# Altium footprint library Resistor.PcbLib: 7 footprints
Each footprint in its own frame and in the unit in brackets; x right, y up, seen from the top. Pads: shape width x height; smd on the part's side, far side on the other; paste and mask are expansions set on the pad; w line width, h text height; cw(c..) or ccw(c..) is an arc to the next point about the centre after c.
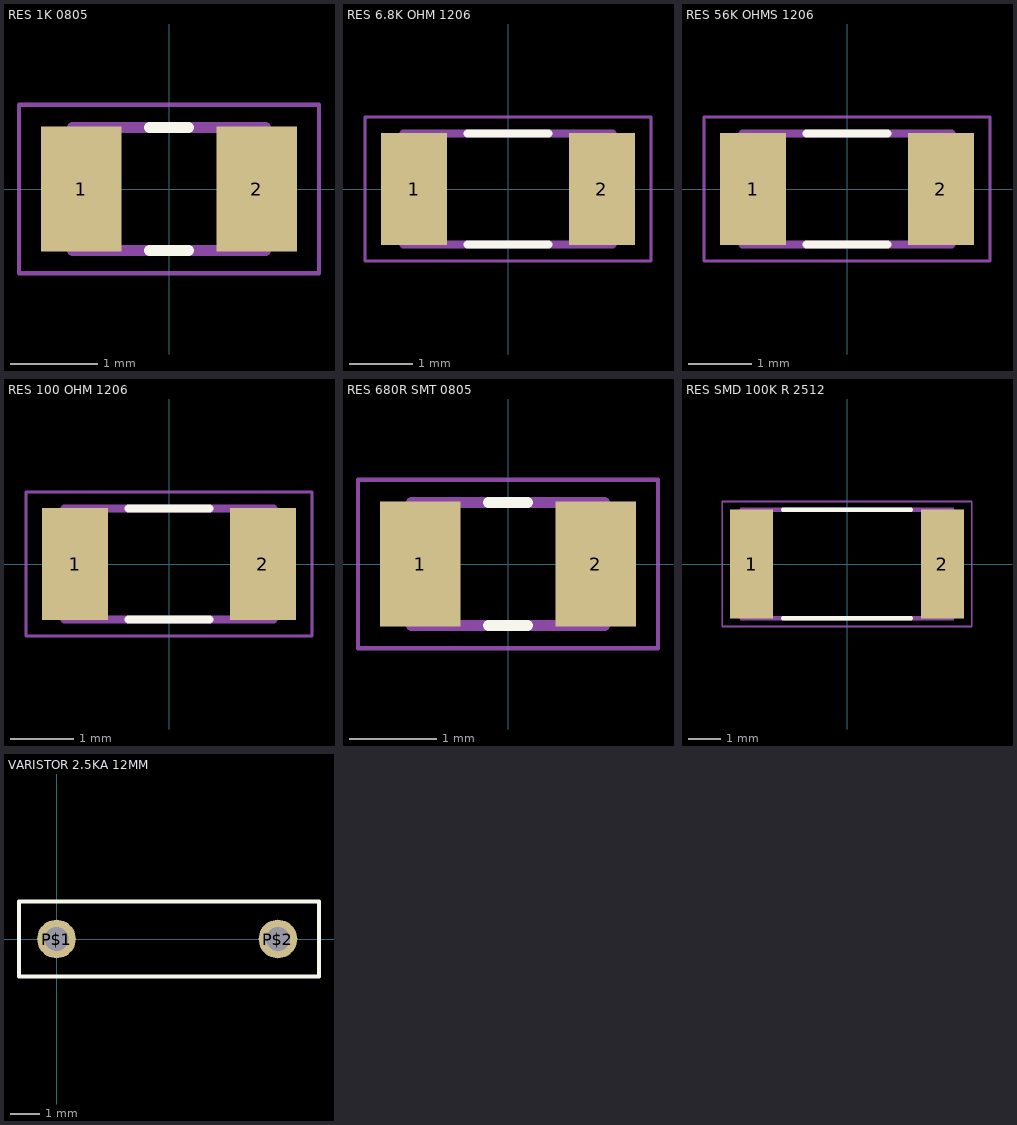
[diagram p0: the footprints below, top view; thin cyan lines are the x and y axes]

## RES 1K 0805 [mm]
pads (2):
  rect 0.92x1.42 smd: 1(-1,0) 2(1,0)
Top Overlay:
  lines w0.127: -0.22,-0.7 0.22,-0.7 ; -0.22,0.7 0.22,0.7
Mechanical 4:
  lines w0.127: -1.1,-0.7 1.1,-0.7 ; -1.1,-0.7 -1.1,0.7 ; -1.1,-0.7 1.1,-0.7 ; -1.1,-0.7 -1.1,0.7 ; -1.1,0.7 1.1,0.7 ; -1.1,0.7 1.1,0.7 ; 1.1,-0.7 1.1,0.7 ; 1.1,-0.7 1.1,0.7
Mechanical 16:
  lines w0.05: -1.71,-0.96 1.71,-0.96 1.71,0.96 -1.71,0.96 -1.71,-0.96

## RES 6.8K OHM 1206 [mm]
pads (2):
  rect 1.05x1.77 smd: 1(-1.485,0) 2(1.485,0)
Top Overlay:
  lines w0.127: -0.64,-0.88 0.64,-0.88 ; -0.64,0.88 0.64,0.88
Mechanical 4:
  lines w0.127: -1.65,-0.88 1.65,-0.88 ; -1.65,-0.88 -1.65,0.88 ; -1.65,-0.88 1.65,-0.88 ; -1.65,-0.88 -1.65,0.88 ; -1.65,0.88 1.65,0.88 ; -1.65,0.88 1.65,0.88 ; 1.65,-0.88 1.65,0.88 ; 1.65,-0.88 1.65,0.88
Mechanical 16:
  lines w0.05: -2.26,-1.135 2.26,-1.135 2.26,1.135 -2.26,1.135 -2.26,-1.135

## RES 56K OHMS 1206 [mm]
pads (2):
  rect 1.05x1.77 smd: 1(-1.485,0) 2(1.485,0)
Top Overlay:
  lines w0.127: -0.64,-0.88 0.64,-0.88 ; -0.64,0.88 0.64,0.88
Mechanical 4:
  lines w0.127: -1.65,-0.88 -1.65,0.88 ; -1.65,-0.88 1.65,-0.88 ; -1.65,-0.88 -1.65,0.88 ; -1.65,-0.88 1.65,-0.88 ; -1.65,0.88 1.65,0.88 ; -1.65,0.88 1.65,0.88 ; 1.65,-0.88 1.65,0.88 ; 1.65,-0.88 1.65,0.88
Mechanical 16:
  lines w0.05: -2.26,-1.135 -2.26,1.135 2.26,1.135 2.26,-1.135 -2.26,-1.135

## RES 100 OHM 1206 [mm]
pads (2):
  rect 1.05x1.77 smd: 1(-1.485,0) 2(1.485,0)
Top Overlay:
  lines w0.127: -0.64,-0.88 0.64,-0.88 ; -0.64,0.88 0.64,0.88
Mechanical 4:
  lines w0.127: -1.65,-0.88 1.65,-0.88 ; -1.65,-0.88 -1.65,0.88 ; -1.65,-0.88 1.65,-0.88 ; -1.65,-0.88 -1.65,0.88 ; -1.65,0.88 1.65,0.88 ; -1.65,0.88 1.65,0.88 ; 1.65,-0.88 1.65,0.88 ; 1.65,-0.88 1.65,0.88
Mechanical 16:
  lines w0.05: -2.26,-1.135 2.26,-1.135 2.26,1.135 -2.26,1.135 -2.26,-1.135

## RES 680R SMT 0805 [mm]
pads (2):
  rect 0.92x1.42 smd: 1(-1,0) 2(1,0)
Top Overlay:
  lines w0.127: -0.22,-0.7 0.22,-0.7 ; -0.22,0.7 0.22,0.7
Mechanical 4:
  lines w0.127: -1.1,-0.7 -1.1,0.7 ; -1.1,-0.7 1.1,-0.7 ; -1.1,-0.7 -1.1,0.7 ; -1.1,-0.7 1.1,-0.7 ; -1.1,0.7 1.1,0.7 ; -1.1,0.7 1.1,0.7 ; 1.1,-0.7 1.1,0.7 ; 1.1,-0.7 1.1,0.7
Mechanical 16:
  lines w0.05: -1.71,-0.96 -1.71,0.96 1.71,0.96 1.71,-0.96 -1.71,-0.96

## RES SMD 100K R 2512 [mm]
pads (2):
  rect 1.34x3.42 smd: 1(-2.99,0) 2(2.99,0)
Top Overlay:
  lines w0.127: -2,-1.7 2,-1.7 ; -2,1.7 2,1.7
Mechanical 13:
  lines w0.127: -3.3,-1.7 3.3,-1.7 3.3,1.7 -3.3,1.7 -3.3,-1.7
Mechanical 15:
  lines w0.05: -3.908,-1.958 3.908,-1.958 3.908,1.958 -3.908,1.958 -3.908,-1.958

## VARISTOR 2.5KA 12MM [mm]
pads (2):
  round 1.308 hole 0.8: P$1(0,0) P$2(7.5,0)
Top Overlay:
  lines w0.127: -1.27,-1.27 8.89,-1.27 8.89,1.27 -1.27,1.27 -1.27,-1.27